# EAGLE library part TXB0104 (library 07-Retrocomputing)
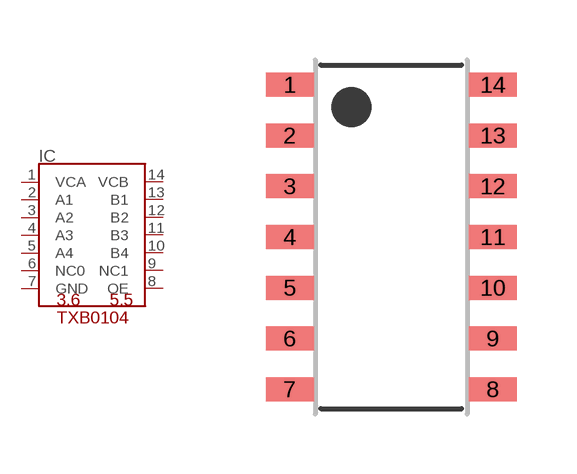
[diagram p29: symbol with the pads of SOIC14; footprint SOIC14]

Designator prefix IC

## TXB0104D  [SOIC14]
1  VCA
2  A1
3  A2
4  A3
5  A4
6  NC0
7  GND
8  OE
9  NC1
10  B4
11  B3
12  B2
13  B1
14  VCB

## Footprint SOIC14 (pad centres in mm)
smd 1.2 x 0.6: 1 -2.54,3.81; 2 -2.54,2.54; 3 -2.54,1.27; 4 -2.54,0; 5 -2.54,-1.27; 6 -2.54,-2.54; 7 -2.54,-3.81; 8 2.54,-3.81; 9 2.54,-2.54; 10 2.54,-1.27; 11 2.54,0; 12 2.54,1.27; 13 2.54,2.54; 14 2.54,3.81